# Altium footprint library SAW_SMP-53_13.3x6.5.PcbLib: 1 footprints
Each footprint in its own frame and in the unit in brackets; x right, y up, seen from the top. Pads: shape width x height; smd on the part's side, far side on the other; paste and mask are expansions set on the pad; w line width, h text height; cw(c..) or ccw(c..) is an arc to the next point about the centre after c.
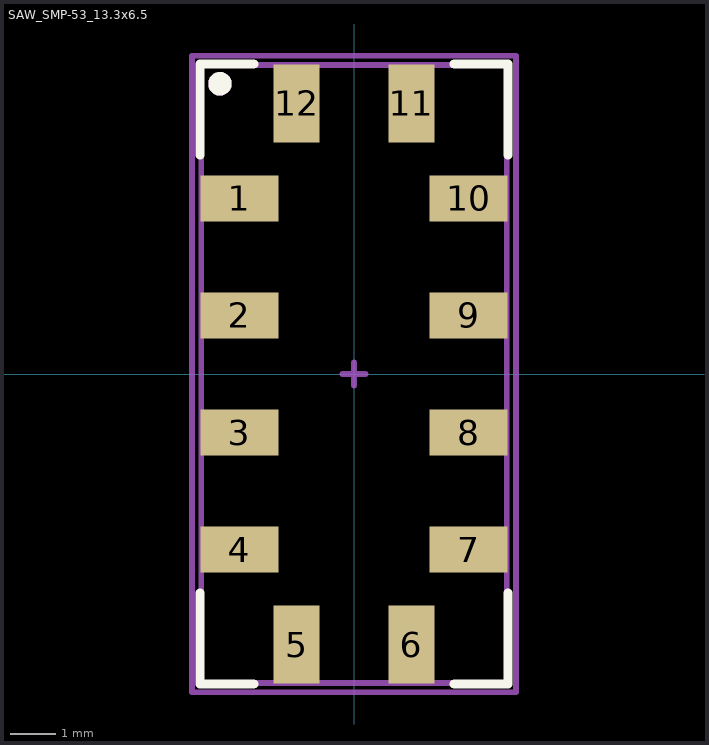
[diagram p0: the footprint, top view; thin cyan lines are the x and y axes]

## SAW_SMP-53_13.3x6.5 [mm]
height 1.8
pads (12):
  rect 1.7x1 smd: 1(-2.5,3.825) 2(-2.5,1.275) 3(-2.5,-1.275) 4(-2.5,-3.825) 7(2.5,-3.825) 8(2.5,-1.275) 9(2.5,1.275) 10(2.5,3.825)
  rect 1x1.7 smd: 5(-1.25,-5.9) 6(1.25,-5.9) 11(1.25,5.9) 12(-1.25,5.9)
Top Overlay:
  circle w0.254: c-2.921,6.325 r0.129
  lines w0.2: -3.353,-4.775 -3.353,-6.756 -2.184,-6.756 ; -3.353,4.775 -3.353,6.756 -2.184,6.756 ; 2.184,-6.756 3.353,-6.756 3.353,-4.775 ; 2.184,6.756 3.353,6.756 3.353,4.775
Mechanical 13:
  circle w0.254: c-2.921,6.325 r0.129
  lines w0.127: -3.327,-6.731 -3.327,6.731 3.327,6.731 3.327,-6.731 -3.327,-6.731
Mechanical 15:
  lines w0.127: -0.25,0 0.25,0 ; 0,-0.25 0,0.25 ; -3.531,-6.934 3.531,-6.934 3.531,6.934 -3.531,6.934 -3.531,-6.934
Mechanical 17:
  text "'.Designator'" at -0.076,2.235 h0.41
Mechanical 19:
  text "'.Comment'" at -0.076,2.235 h0.41
3D body "User Library-854909 pass.step": height 1.75, standoff 0, extent -3.25,-6.65 3.25,6.65